# EAGLE library part USB-C_POWER (library USB)
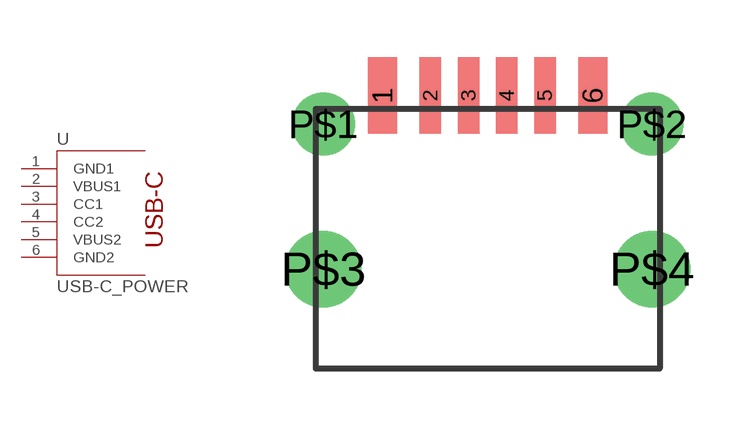
[diagram p0: symbol with the pads of USB-C; footprint USB-C]

Designator prefix -

## USB-C_POWER  [USB-C]
1  GND1
2  VBUS1
3  CC1
4  CC2
5  VBUS2
6  GND2

## Footprint USB-C (pad centres in mm)
smd 0.762 x 2: 1 -2.75,2.848; 6 2.75,2.848
smd 0.559 x 2: 2 -1.5,2.848; 3 -0.5,2.848; 4 0.5,2.848; 5 1.5,2.848
drill 1.1 pad 1.6: P$1 -4.3,2.1; P$2 4.3,2.1
drill 1 pad 2: P$3 -4.3,-1.7; P$4 4.3,-1.7